# EAGLE library part BEAGLEBONE_OUTLINE (library adafruit-MOD)
Mechanically this is correct, but signals are not fully tested!!!!
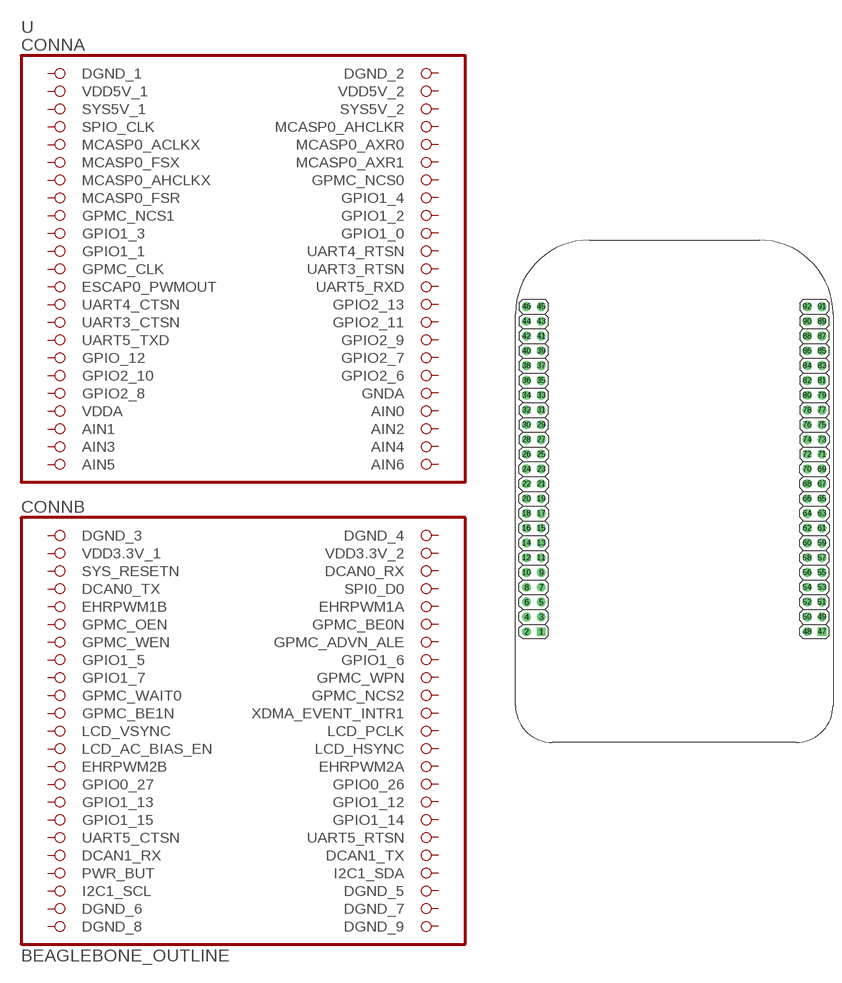
[diagram p92: symbol with the pads of BEAGLEBONE_SHIELD; footprint BEAGLEBONE_SHIELD]

Designator prefix -

## BEAGLEBONE_OUTLINE  [BEAGLEBONE_SHIELD]
1  DGND_1  pwr
2  DGND_2  pwr
3  VDD5V_1  pwr
4  VDD5V_2  pwr
5  SYS5V_1  pwr
6  SYS5V_2  pwr
7  SPIO_CLK  pas
8  MCASP0_AHCLKR  pas
9  MCASP0_ACLKX  pas
10  MCASP0_AXR0  pas
11  MCASP0_FSX  pas
12  MCASP0_AXR1  pas
13  MCASP0_AHCLKX  pas
14  GPMC_NCS0  pas
15  MCASP0_FSR  pas
16  GPIO1_4  pas
17  GPMC_NCS1  pas
18  GPIO1_2  pas
19  GPIO1_3  pas
20  GPIO1_0  pas
21  GPIO1_1  pas
22  UART4_RTSN  pas
23  GPMC_CLK  pas
24  UART3_RTSN  pas
25  ESCAP0_PWMOUT  pas
26  UART5_RXD  pas
27  UART4_CTSN  pas
28  GPIO2_13  pas
29  UART3_CTSN  pas
30  GPIO2_11  pas
31  UART5_TXD  pas
32  GPIO2_9  pas
33  GPIO_12  pas
34  GPIO2_7  pas
35  GPIO2_10  pas
36  GPIO2_6  pas
37  GPIO2_8  pas
38  GNDA  pwr
39  VDDA  pwr
40  AIN0  in
41  AIN1  in
42  AIN2  in
43  AIN3  in
44  AIN4  in
45  AIN5  in
46  AIN6  in
47  DGND_3  pwr
48  DGND_4  pwr
49  VDD3.3V_1  pwr
50  VDD3.3V_2  pwr
51  SYS_RESETN  pas
52  DCAN0_RX  pas
53  DCAN0_TX  pas
54  SPI0_D0  pas
55  EHRPWM1B  pas
56  EHRPWM1A  pas
57  GPMC_OEN  pas
58  GPMC_BE0N  pas
59  GPMC_WEN  pas
60  GPMC_ADVN_ALE  pas
61  GPIO1_5  pas
62  GPIO1_6  pas
63  GPIO1_7  pas
64  GPMC_WPN  pas
65  GPMC_WAIT0  pas
66  GPMC_NCS2  pas
67  GPMC_BE1N  pas
68  XDMA_EVENT_INTR1  pas
69  LCD_VSYNC  pas
70  LCD_PCLK  pas
71  LCD_AC_BIAS_EN  pas
72  LCD_HSYNC  pas
73  EHRPWM2B  pas
74  EHRPWM2A  pas
75  GPIO0_27  pas
76  GPIO0_26  pas
77  GPIO1_13  pas
78  GPIO1_12  pas
79  GPIO1_15  pas
80  GPIO1_14  pas
81  UART5_CTSN  pas
82  UART5_RTSN  pas
83  DCAN1_RX  pas
84  DCAN1_TX  pas
85  PWR_BUT  pas
86  I2C1_SDA  pas
87  I2C1_SCL  pas
88  DGND_5  pwr
89  DGND_6  pwr
90  DGND_7  pwr
91  DGND_8  pwr
92  DGND_9  pwr

## Footprint BEAGLEBONE_SHIELD (pad centres in mm)
drill 1 square: 1 4.445,19.05; 47 52.705,19.05
drill 1: 2 1.905,19.05; 3 4.445,21.59; 4 1.905,21.59; 5 4.445,24.13; 6 1.905,24.13; 7 4.445,26.67; 8 1.905,26.67; 9 4.445,29.21; 10 1.905,29.21; 11 4.445,31.75; 12 1.905,31.75; 13 4.445,34.29; 14 1.905,34.29; 15 4.445,36.83; 16 1.905,36.83; 17 4.445,39.37; 18 1.905,39.37; 19 4.445,41.91; 20 1.905,41.91; 21 4.445,44.45; 22 1.905,44.45; 23 4.445,46.99; 24 1.905,46.99; 25 4.445,49.53; 26 1.905,49.53; 27 4.445,52.07; 28 1.905,52.07; 29 4.445,54.61; 30 1.905,54.61; 31 4.445,57.15; 32 1.905,57.15; 33 4.445,59.69; 34 1.905,59.69; 35 4.445,62.23; 36 1.905,62.23; 37 4.445,64.77; 38 1.905,64.77; 39 4.445,67.31; 40 1.905,67.31; 41 4.445,69.85; 42 1.905,69.85; 43 4.445,72.39; 44 1.905,72.39; 45 4.445,74.93; 46 1.905,74.93; 48 50.165,19.05; 49 52.705,21.59; 50 50.165,21.59; 51 52.705,24.13; 52 50.165,24.13; 53 52.705,26.67; 54 50.165,26.67; 55 52.705,29.21; 56 50.165,29.21; 57 52.705,31.75; 58 50.165,31.75; 59 52.705,34.29; 60 50.165,34.29; 61 52.705,36.83; 62 50.165,36.83; 63 52.705,39.37; 64 50.165,39.37; 65 52.705,41.91; 66 50.165,41.91; 67 52.705,44.45; 68 50.165,44.45; 69 52.705,46.99; 70 50.165,46.99; 71 52.705,49.53; 72 50.165,49.53; 73 52.705,52.07; 74 50.165,52.07; 75 52.705,54.61; 76 50.165,54.61; 77 52.705,57.15; 78 50.165,57.15; 79 52.705,59.69; 80 50.165,59.69; 81 52.705,62.23; 82 50.165,62.23; 83 52.705,64.77; 84 50.165,64.77; 85 52.705,67.31; 86 50.165,67.31; 87 52.705,69.85; 88 50.165,69.85; 89 52.705,72.39; 90 50.165,72.39; 91 52.705,74.93; 92 50.165,74.93